# Altium integrated library IR Rectifier - Schottky.IntLib: 340 symbols (part 4 of 5)
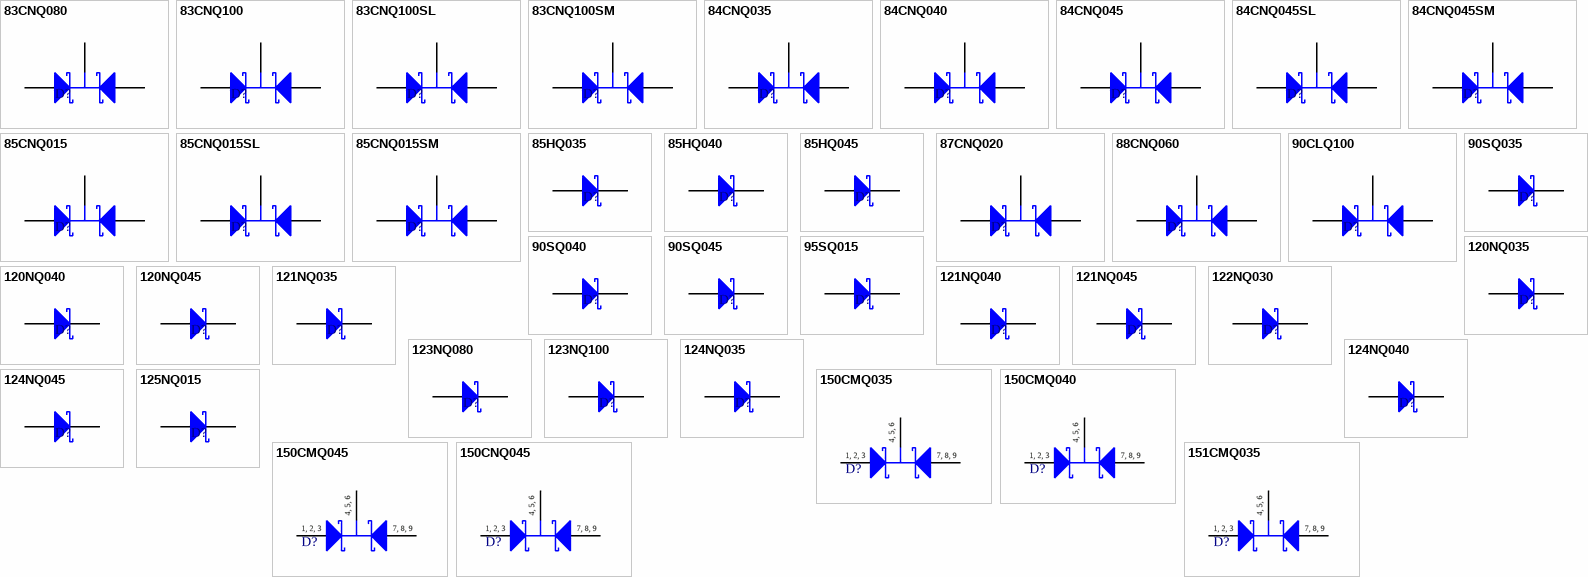
[diagram p11: symbols 83CNQ080 to 151CMQ035]

## 150CMQ035
designator D?
Schottky Rectifier; Published: 8-Jun-2000; LatestRevisionDate: 17-Jul-2002; LatestRevisionNote: Re-released for DXP Platform.; DatasheetDocument: Dec-1997; PackageDocument: Mar-1999; PackageReference: TO-249; Publisher: Altium Limited; ComponentLink1Description: Manufacturer Link; ComponentLink1URL: http://www.irf.com/; ComponentLink2Description: Datasheet; ComponentLink2URL: http://www.irf.com/product-info/datasheets/data/150cmq.pdf
footprint TO-249 (Rectangular Flange Mount, Thru-Hole; 9 Leads; Pitch 3.81 mm)
signal-integrity model 150CMQ035
pins: 1 A1, 2 A1, 3 A1, 4 K, 5 K, 6 K, 7 A2, 8 A2, 9 A2
text: 4, 5, 6; 1, 2, 3; 7, 8, 9

## 150CMQ040
designator D?
Schottky Rectifier; Published: 8-Jun-2000; LatestRevisionDate: 17-Jul-2002; LatestRevisionNote: Re-released for DXP Platform.; DatasheetDocument: Dec-1997; PackageDocument: Mar-1999; PackageReference: TO-249; Publisher: Altium Limited; ComponentLink1Description: Manufacturer Link; ComponentLink1URL: http://www.irf.com/; ComponentLink2Description: Datasheet; ComponentLink2URL: http://www.irf.com/product-info/datasheets/data/150cmq.pdf
footprint TO-249 (Rectangular Flange Mount, Thru-Hole; 9 Leads; Pitch 3.81 mm)
signal-integrity model 150CMQ040
pins: 1 A1, 2 A1, 3 A1, 4 K, 5 K, 6 K, 7 A2, 8 A2, 9 A2
text: 4, 5, 6; 1, 2, 3; 7, 8, 9

## 150CMQ045
designator D?
Schottky Rectifier; Published: 8-Jun-2000; LatestRevisionDate: 17-Jul-2002; LatestRevisionNote: Re-released for DXP Platform.; DatasheetDocument: Dec-1997; PackageDocument: Mar-1999; PackageReference: TO-249; Publisher: Altium Limited; ComponentLink1Description: Manufacturer Link; ComponentLink1URL: http://www.irf.com/; ComponentLink2Description: Datasheet; ComponentLink2URL: http://www.irf.com/product-info/datasheets/data/150cmq.pdf
footprint TO-249 (Rectangular Flange Mount, Thru-Hole; 9 Leads; Pitch 3.81 mm)
signal-integrity model 150CMQ045
pins: 1 A1, 2 A1, 3 A1, 4 K, 5 K, 6 K, 7 A2, 8 A2, 9 A2
text: 4, 5, 6; 1, 2, 3; 7, 8, 9

## 150CNQ045
designator D?
Schottky Rectifier; Published: 8-Jun-2000; LatestRevisionDate: 17-Jul-2002; LatestRevisionNote: Re-released for DXP Platform.; DatasheetDocument: Nov-1997; PackageDocument: Mar-1999; PackageReference: TO-249; Publisher: Altium Limited; ComponentLink1Description: Manufacturer Link; ComponentLink1URL: http://www.irf.com/; ComponentLink2Description: Datasheet; ComponentLink2URL: http://www.irf.com/product-info/datasheets/data/150cnq035.pdf
footprint TO-249 (Rectangular Flange Mount, Thru-Hole; 9 Leads; Pitch 3.81 mm)
signal-integrity model 150CNQ045
pins: 1 A1, 2 A1, 3 A1, 4 K, 5 K, 6 K, 7 A2, 8 A2, 9 A2
text: 4, 5, 6; 1, 2, 3; 7, 8, 9

## 151CMQ035
designator D?
Schottky Rectifier; Published: 8-Jun-2000; LatestRevisionDate: 17-Jul-2002; LatestRevisionNote: Re-released for DXP Platform.; DatasheetDocument: Dec-1997; PackageDocument: Mar-1999; PackageReference: TO-249; Publisher: Altium Limited; ComponentLink1Description: Manufacturer Link; ComponentLink1URL: http://www.irf.com/; ComponentLink2Description: Datasheet; ComponentLink2URL: http://www.irf.com/product-info/datasheets/data/151cmq.pdf
footprint TO-249 (Rectangular Flange Mount, Thru-Hole; 9 Leads; Pitch 3.81 mm)
signal-integrity model 151CMQ035
pins: 1 A1, 2 A1, 3 A1, 4 K, 5 K, 6 K, 7 A2, 8 A2, 9 A2
text: 4, 5, 6; 1, 2, 3; 7, 8, 9

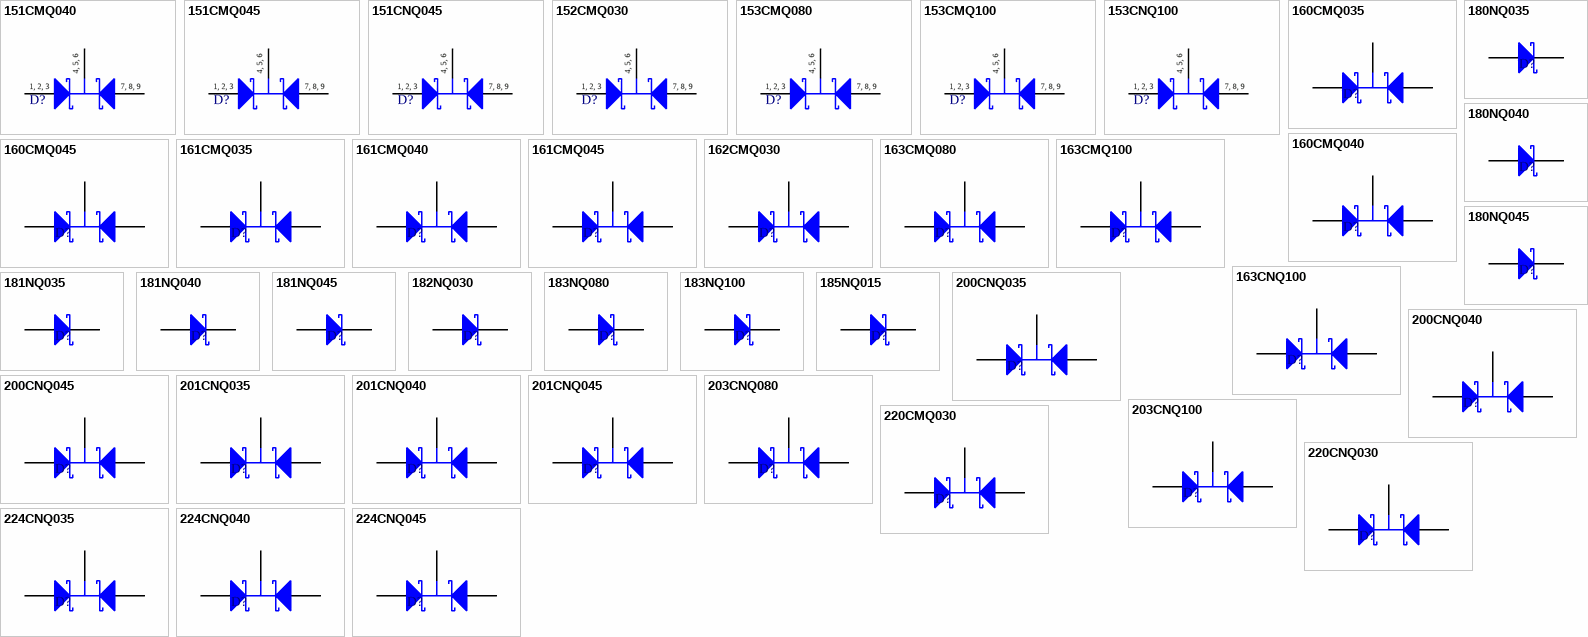
[diagram p6: symbols 151CMQ040 to 224CNQ045]

## 151CMQ040
designator D?
Schottky Rectifier; Published: 8-Jun-2000; LatestRevisionDate: 17-Jul-2002; LatestRevisionNote: Re-released for DXP Platform.; DatasheetDocument: Dec-1997; PackageDocument: Mar-1999; PackageReference: TO-249; Publisher: Altium Limited; ComponentLink1Description: Manufacturer Link; ComponentLink1URL: http://www.irf.com/; ComponentLink2Description: Datasheet; ComponentLink2URL: http://www.irf.com/product-info/datasheets/data/151cmq.pdf
footprint TO-249 (Rectangular Flange Mount, Thru-Hole; 9 Leads; Pitch 3.81 mm)
signal-integrity model 151CMQ040
pins: 1 A1, 2 A1, 3 A1, 4 K, 5 K, 6 K, 7 A2, 8 A2, 9 A2
text: 4, 5, 6; 1, 2, 3; 7, 8, 9

## 151CMQ045
designator D?
Schottky Rectifier; Published: 8-Jun-2000; LatestRevisionDate: 17-Jul-2002; LatestRevisionNote: Re-released for DXP Platform.; DatasheetDocument: Dec-1997; PackageDocument: Mar-1999; PackageReference: TO-249; Publisher: Altium Limited; ComponentLink1Description: Manufacturer Link; ComponentLink1URL: http://www.irf.com/; ComponentLink2Description: Datasheet; ComponentLink2URL: http://www.irf.com/product-info/datasheets/data/151cmq.pdf
footprint TO-249 (Rectangular Flange Mount, Thru-Hole; 9 Leads; Pitch 3.81 mm)
signal-integrity model 151CMQ045
pins: 1 A1, 2 A1, 3 A1, 4 K, 5 K, 6 K, 7 A2, 8 A2, 9 A2
text: 4, 5, 6; 1, 2, 3; 7, 8, 9

## 151CNQ045
designator D?
Schottky Rectifier; Published: 8-Jun-2000; LatestRevisionDate: 17-Jul-2002; LatestRevisionNote: Re-released for DXP Platform.; DatasheetDocument: Nov-1997; PackageDocument: Mar-1999; PackageReference: TO-249; Publisher: Altium Limited; ComponentLink1Description: Manufacturer Link; ComponentLink1URL: http://www.irf.com/; ComponentLink2Description: Datasheet; ComponentLink2URL: http://www.irf.com/product-info/datasheets/data/150cnq035.pdf
footprint TO-249 (Rectangular Flange Mount, Thru-Hole; 9 Leads; Pitch 3.81 mm)
signal-integrity model 151CNQ045
pins: 1 A1, 2 A1, 3 A1, 4 K, 5 K, 6 K, 7 A2, 8 A2, 9 A2
text: 4, 5, 6; 1, 2, 3; 7, 8, 9

## 152CMQ030
designator D?
Schottky Rectifier; Published: 8-Jun-2000; LatestRevisionDate: 17-Jul-2002; LatestRevisionNote: Re-released for DXP Platform.; DatasheetDocument: Dec-1997; PackageDocument: Mar-1999; PackageReference: TO-249; Publisher: Altium Limited; ComponentLink1Description: Manufacturer Link; ComponentLink1URL: http://www.irf.com/; ComponentLink2Description: Datasheet; ComponentLink2URL: http://www.irf.com/product-info/datasheets/data/152cmq030.pdf
footprint TO-249 (Rectangular Flange Mount, Thru-Hole; 9 Leads; Pitch 3.81 mm)
signal-integrity model 152CMQ030
pins: 1 A1, 2 A1, 3 A1, 4 K, 5 K, 6 K, 7 A2, 8 A2, 9 A2
text: 4, 5, 6; 1, 2, 3; 7, 8, 9

## 153CMQ080
designator D?
Schottky Rectifier; Published: 8-Jun-2000; LatestRevisionDate: 17-Jul-2002; LatestRevisionNote: Re-released for DXP Platform.; DatasheetDocument: Dec-1997; PackageDocument: Mar-1999; PackageReference: TO-249; Publisher: Altium Limited; ComponentLink1Description: Manufacturer Link; ComponentLink1URL: http://www.irf.com/; ComponentLink2Description: Datasheet; ComponentLink2URL: http://www.irf.com/product-info/datasheets/data/153cmq080.pdf
footprint TO-249 (Rectangular Flange Mount, Thru-Hole; 9 Leads; Pitch 3.81 mm)
signal-integrity model 153CMQ080
pins: 1 A1, 2 A1, 3 A1, 4 K, 5 K, 6 K, 7 A2, 8 A2, 9 A2
text: 4, 5, 6; 1, 2, 3; 7, 8, 9

## 153CMQ100
designator D?
Schottky Rectifier; Published: 8-Jun-2000; LatestRevisionDate: 17-Jul-2002; LatestRevisionNote: Re-released for DXP Platform.; DatasheetDocument: Dec-1997; PackageDocument: Mar-1999; PackageReference: TO-249; Publisher: Altium Limited; ComponentLink1Description: Manufacturer Link; ComponentLink1URL: http://www.irf.com/; ComponentLink2Description: Datasheet; ComponentLink2URL: http://www.irf.com/product-info/datasheets/data/153cmq080.pdf
footprint TO-249 (Rectangular Flange Mount, Thru-Hole; 9 Leads; Pitch 3.81 mm)
signal-integrity model 153CMQ100
pins: 1 A1, 2 A1, 3 A1, 4 K, 5 K, 6 K, 7 A2, 8 A2, 9 A2
text: 4, 5, 6; 1, 2, 3; 7, 8, 9

## 153CNQ100
designator D?
Schottky Rectifier; Published: 8-Jun-2000; LatestRevisionDate: 17-Jul-2002; LatestRevisionNote: Re-released for DXP Platform.; DatasheetDocument: Nov-1997; PackageDocument: Mar-1999; PackageReference: TO-249; Publisher: Altium Limited; ComponentLink1Description: Manufacturer Link; ComponentLink1URL: http://www.irf.com/; ComponentLink2Description: Datasheet; ComponentLink2URL: http://www.irf.com/product-info/datasheets/data/153cnq080.pdf
footprint TO-249 (Rectangular Flange Mount, Thru-Hole; 9 Leads; Pitch 3.81 mm)
signal-integrity model 153CNQ100
pins: 1 A1, 2 A1, 3 A1, 4 K, 5 K, 6 K, 7 A2, 8 A2, 9 A2
text: 4, 5, 6; 1, 2, 3; 7, 8, 9

## 160CMQ035
designator D?
Schottky Rectifier; PackageDocument: Rev. A,  Dec-1997; Note: Land pattern features silkscreen outline and mounting holes only.; Published: 8-Jun-2000; LatestRevisionDate: 17-Jul-2002; LatestRevisionNote: Re-released for DXP Platform.; DatasheetDocument: Dec-1997; PackageReference: TO-249AA; Publisher: Altium Limited; ComponentLink1Description: Manufacturer Link; ComponentLink1URL: http://www.irf.com/; ComponentLink2Description: Datasheet; ComponentLink2URL: http://www.irf.com/product-info/datasheets/data/160cmq.pdf
footprint TO-249AA (Rectangular Flange Mount/TO-249-AA; 3 Terminals; Body 61.21 x 25.65 x 10.16 mm  (LxWxH max))
simulation model 160CMQ035 (SUBCKT)
signal-integrity model 160CMQ035
pins: 1 A1, 2 K, 3 A2

## 160CMQ040
designator D?
Schottky Rectifier; PackageDocument: Rev. A,  Dec-1997; Note: Land pattern features silkscreen outline and mounting holes only.; Published: 8-Jun-2000; LatestRevisionDate: 17-Jul-2002; LatestRevisionNote: Re-released for DXP Platform.; DatasheetDocument: Dec-1997; PackageReference: TO-249AA; Publisher: Altium Limited; ComponentLink1Description: Manufacturer Link; ComponentLink1URL: http://www.irf.com/; ComponentLink2Description: Datasheet; ComponentLink2URL: http://www.irf.com/product-info/datasheets/data/160cmq.pdf
footprint TO-249AA (Rectangular Flange Mount/TO-249-AA; 3 Terminals; Body 61.21 x 25.65 x 10.16 mm  (LxWxH max))
simulation model 160CMQ040 (SUBCKT)
signal-integrity model 160CMQ040
pins: 1 A1, 2 K, 3 A2

## 160CMQ045
designator D?
Schottky Rectifier; PackageDocument: Rev. A,  Dec-1997; Note: Land pattern features silkscreen outline and mounting holes only.; Published: 8-Jun-2000; LatestRevisionDate: 17-Jul-2002; LatestRevisionNote: Re-released for DXP Platform.; DatasheetDocument: Dec-1997; PackageReference: TO-249AA; Publisher: Altium Limited; ComponentLink1Description: Manufacturer Link; ComponentLink1URL: http://www.irf.com/; ComponentLink2Description: Datasheet; ComponentLink2URL: http://www.irf.com/product-info/datasheets/data/160cmq.pdf
footprint TO-249AA (Rectangular Flange Mount/TO-249-AA; 3 Terminals; Body 61.21 x 25.65 x 10.16 mm  (LxWxH max))
simulation model 160CMQ045 (SUBCKT)
signal-integrity model 160CMQ045
pins: 1 A1, 2 K, 3 A2

## 161CMQ035
designator D?
Schottky Rectifier; PackageDocument: Rev. A,  Dec-1997; Note: Land pattern features silkscreen outline and mounting holes only.; Published: 8-Jun-2000; LatestRevisionDate: 17-Jul-2002; LatestRevisionNote: Re-released for DXP Platform.; DatasheetDocument: Dec-1997; PackageReference: TO-249AA; Publisher: Altium Limited; ComponentLink1Description: Manufacturer Link; ComponentLink1URL: http://www.irf.com/; ComponentLink2Description: Datasheet; ComponentLink2URL: http://www.irf.com/product-info/datasheets/data/161cmq.pdf
footprint TO-249AA (Rectangular Flange Mount/TO-249-AA; 3 Terminals; Body 61.21 x 25.65 x 10.16 mm  (LxWxH max))
simulation model 161CMQ035 (SUBCKT)
signal-integrity model 161CMQ035
pins: 1 A1, 2 K, 3 A2

## 161CMQ040
designator D?
Schottky Rectifier; PackageDocument: Rev. A,  Dec-1997; Note: Land pattern features silkscreen outline and mounting holes only.; Published: 8-Jun-2000; LatestRevisionDate: 17-Jul-2002; LatestRevisionNote: Re-released for DXP Platform.; DatasheetDocument: Dec-1997; PackageReference: TO-249AA; Publisher: Altium Limited; ComponentLink1Description: Manufacturer Link; ComponentLink1URL: http://www.irf.com/; ComponentLink2Description: Datasheet; ComponentLink2URL: http://www.irf.com/product-info/datasheets/data/161cmq.pdf
footprint TO-249AA (Rectangular Flange Mount/TO-249-AA; 3 Terminals; Body 61.21 x 25.65 x 10.16 mm  (LxWxH max))
simulation model 161CMQ040 (SUBCKT)
signal-integrity model 161CMQ040
pins: 1 A1, 2 K, 3 A2

## 161CMQ045
designator D?
Schottky Rectifier; PackageDocument: Rev. A,  Dec-1997; Note: Land pattern features silkscreen outline and mounting holes only.; Published: 8-Jun-2000; LatestRevisionDate: 17-Jul-2002; LatestRevisionNote: Re-released for DXP Platform.; DatasheetDocument: Dec-1997; PackageReference: TO-249AA; Publisher: Altium Limited; ComponentLink1Description: Manufacturer Link; ComponentLink1URL: http://www.irf.com/; ComponentLink2Description: Datasheet; ComponentLink2URL: http://www.irf.com/product-info/datasheets/data/161cmq.pdf
footprint TO-249AA (Rectangular Flange Mount/TO-249-AA; 3 Terminals; Body 61.21 x 25.65 x 10.16 mm  (LxWxH max))
simulation model 161CMQ045 (SUBCKT)
signal-integrity model 161CMQ045
pins: 1 A1, 2 K, 3 A2

## 162CMQ030
designator D?
Schottky Rectifier; PackageDocument: Rev. A,  Dec-1997; Note: Land pattern features silkscreen outline and mounting holes only.; Published: 8-Jun-2000; LatestRevisionDate: 17-Jul-2002; LatestRevisionNote: Re-released for DXP Platform.; DatasheetDocument: Dec-1997; PackageReference: TO-249AA; Publisher: Altium Limited; ComponentLink1Description: Manufacturer Link; ComponentLink1URL: http://www.irf.com/; ComponentLink2Description: Datasheet; ComponentLink2URL: http://www.irf.com/product-info/datasheets/data/162cmq030.pdf
footprint TO-249AA (Rectangular Flange Mount/TO-249-AA; 3 Terminals; Body 61.21 x 25.65 x 10.16 mm  (LxWxH max))
simulation model 162CMQ030 (SUBCKT)
signal-integrity model 162CMQ030
pins: 1 A1, 2 K, 3 A2

## 163CMQ080
designator D?
Schottky Rectifier; PackageDocument: Rev. A,  Dec-1997; Note: Land pattern features silkscreen outline and mounting holes only.; Published: 8-Jun-2000; LatestRevisionDate: 17-Jul-2002; LatestRevisionNote: Re-released for DXP Platform.; DatasheetDocument: Dec-1997; PackageReference: TO-249AA; Publisher: Altium Limited; ComponentLink1Description: Manufacturer Link; ComponentLink1URL: http://www.irf.com/; ComponentLink2Description: Datasheet; ComponentLink2URL: http://www.irf.com/product-info/datasheets/data/163cmq.pdf
footprint TO-249AA (Rectangular Flange Mount/TO-249-AA; 3 Terminals; Body 61.21 x 25.65 x 10.16 mm  (LxWxH max))
simulation model 163CMQ080 (SUBCKT)
signal-integrity model 163CMQ080
pins: 1 A1, 2 K, 3 A2

## 163CMQ100
designator D?
Schottky Rectifier; PackageDocument: Rev. A,  Dec-1997; Note: Land pattern features silkscreen outline and mounting holes only.; Published: 8-Jun-2000; LatestRevisionDate: 17-Jul-2002; LatestRevisionNote: Re-released for DXP Platform.; DatasheetDocument: Dec-1997; PackageReference: TO-249AA; Publisher: Altium Limited; ComponentLink1Description: Manufacturer Link; ComponentLink1URL: http://www.irf.com/; ComponentLink2Description: Datasheet; ComponentLink2URL: http://www.irf.com/product-info/datasheets/data/163cmq.pdf
footprint TO-249AA (Rectangular Flange Mount/TO-249-AA; 3 Terminals; Body 61.21 x 25.65 x 10.16 mm  (LxWxH max))
simulation model 163CMQ100 (SUBCKT)
signal-integrity model 163CMQ100
pins: 1 A1, 2 K, 3 A2

## 163CNQ100
designator D?
Schottky Rectifier; PackageDocument: Rev. A,  Dec-1997; Note: Land pattern features silkscreen outline and mounting holes only.; Published: 8-Jun-2000; LatestRevisionDate: 17-Jul-2002; LatestRevisionNote: Re-released for DXP Platform.; DatasheetDocument: Dec-1997; PackageReference: TO-249AA; Publisher: Altium Limited; ComponentLink1Description: Manufacturer Link; ComponentLink1URL: http://www.irf.com/; ComponentLink2Description: Datasheet; ComponentLink2URL: http://www.irf.com/product-info/datasheets/data/163cmq.pdf
footprint TO-249AA (Rectangular Flange Mount/TO-249-AA; 3 Terminals; Body 61.21 x 25.65 x 10.16 mm  (LxWxH max))
simulation model 163CNQ100 (SUBCKT)
signal-integrity model 163CNQ100
pins: 1 A1, 2 K, 3 A2

## 180NQ035
designator D?
Schottky Rectifier; PackageDocument: Rev. B,  Feb-2001; Note: Land pattern features silkscreen outline and mounting holes.; Published: 8-Jun-2000; LatestRevisionDate: 17-Jul-2002; LatestRevisionNote: Re-released for DXP Platform.; DatasheetDocument: Dec-1997; PackageReference: HALF-PAK; Publisher: Altium Limited; ComponentLink1Description: Manufacturer Link; ComponentLink1URL: http://www.irf.com/; ComponentLink2Description: Datasheet; ComponentLink2URL: http://www.irf.com/product-info/datasheets/data/180nq.pdf
footprint HALF-PAK (Half-Pak Module; 1 Lug Terminal, 1 Base Terminal; Body 39.62 x 19.69 x 15.11 mm (LxWxH max))
simulation model 180NQ035 (DIODE)
signal-integrity model 180NQ035
pins: 1 A, 2 K

## 180NQ040
designator D?
Schottky Rectifier; PackageDocument: Rev. B,  Feb-2001; Note: Land pattern features silkscreen outline and mounting holes.; Published: 8-Jun-2000; LatestRevisionDate: 17-Jul-2002; LatestRevisionNote: Re-released for DXP Platform.; DatasheetDocument: Dec-1997; PackageReference: HALF-PAK; Publisher: Altium Limited; ComponentLink1Description: Manufacturer Link; ComponentLink1URL: http://www.irf.com/; ComponentLink2Description: Datasheet; ComponentLink2URL: http://www.irf.com/product-info/datasheets/data/180nq.pdf
footprint HALF-PAK (Half-Pak Module; 1 Lug Terminal, 1 Base Terminal; Body 39.62 x 19.69 x 15.11 mm (LxWxH max))
simulation model 180NQ040 (DIODE)
signal-integrity model 180NQ040
pins: 1 A, 2 K

## 180NQ045
designator D?
Schottky Rectifier; PackageDocument: Rev. B,  Feb-2001; Note: Land pattern features silkscreen outline and mounting holes.; Published: 8-Jun-2000; LatestRevisionDate: 17-Jul-2002; LatestRevisionNote: Re-released for DXP Platform.; DatasheetDocument: Dec-1997; PackageReference: HALF-PAK; Publisher: Altium Limited; ComponentLink1Description: Manufacturer Link; ComponentLink1URL: http://www.irf.com/; ComponentLink2Description: Datasheet; ComponentLink2URL: http://www.irf.com/product-info/datasheets/data/180nq.pdf
footprint HALF-PAK (Half-Pak Module; 1 Lug Terminal, 1 Base Terminal; Body 39.62 x 19.69 x 15.11 mm (LxWxH max))
simulation model 180NQ045 (DIODE)
signal-integrity model 180NQ045
pins: 1 A, 2 K

## 181NQ035
designator D?
Schottky Rectifier; PackageDocument: Rev. B,  Feb-2001; Note: Land pattern features silkscreen outline and mounting holes.; Published: 8-Jun-2000; LatestRevisionDate: 17-Jul-2002; LatestRevisionNote: Re-released for DXP Platform.; DatasheetDocument: Dec-1997; PackageReference: HALF-PAK; Publisher: Altium Limited; ComponentLink1Description: Manufacturer Link; ComponentLink1URL: http://www.irf.com/; ComponentLink2Description: Datasheet; ComponentLink2URL: http://www.irf.com/product-info/datasheets/data/181nq.pdf
footprint HALF-PAK (Half-Pak Module; 1 Lug Terminal, 1 Base Terminal; Body 39.62 x 19.69 x 15.11 mm (LxWxH max))
simulation model 181NQ035 (DIODE)
signal-integrity model 181NQ035
pins: 1 A, 2 K

## 181NQ040
designator D?
Schottky Rectifier; PackageDocument: Rev. B,  Feb-2001; Note: Land pattern features silkscreen outline and mounting holes.; Published: 8-Jun-2000; LatestRevisionDate: 17-Jul-2002; LatestRevisionNote: Re-released for DXP Platform.; DatasheetDocument: Dec-1997; PackageReference: HALF-PAK; Publisher: Altium Limited; ComponentLink1Description: Manufacturer Link; ComponentLink1URL: http://www.irf.com/; ComponentLink2Description: Datasheet; ComponentLink2URL: http://www.irf.com/product-info/datasheets/data/181nq.pdf
footprint HALF-PAK (Half-Pak Module; 1 Lug Terminal, 1 Base Terminal; Body 39.62 x 19.69 x 15.11 mm (LxWxH max))
simulation model 181NQ040 (DIODE)
signal-integrity model 181NQ040
pins: 1 A, 2 K

## 181NQ045
designator D?
Schottky Rectifier; PackageDocument: Rev. B,  Feb-2001; Note: Land pattern features silkscreen outline and mounting holes.; Published: 8-Jun-2000; LatestRevisionDate: 17-Jul-2002; LatestRevisionNote: Re-released for DXP Platform.; DatasheetDocument: Dec-1997; PackageReference: HALF-PAK; Publisher: Altium Limited; ComponentLink1Description: Manufacturer Link; ComponentLink1URL: http://www.irf.com/; ComponentLink2Description: Datasheet; ComponentLink2URL: http://www.irf.com/product-info/datasheets/data/181nq.pdf
footprint HALF-PAK (Half-Pak Module; 1 Lug Terminal, 1 Base Terminal; Body 39.62 x 19.69 x 15.11 mm (LxWxH max))
simulation model 181NQ045 (DIODE)
signal-integrity model 181NQ045
pins: 1 A, 2 K

## 182NQ030
designator D?
Schottky Rectifier; PackageDocument: Rev. B,  Feb-2001; Note: Land pattern features silkscreen outline and mounting holes.; Published: 8-Jun-2000; LatestRevisionDate: 17-Jul-2002; LatestRevisionNote: Re-released for DXP Platform.; DatasheetDocument: Dec-1997; PackageReference: HALF-PAK; Publisher: Altium Limited; ComponentLink1Description: Manufacturer Link; ComponentLink1URL: http://www.irf.com/; ComponentLink2Description: Datasheet; ComponentLink2URL: http://www.irf.com/product-info/datasheets/data/182nq030.pdf
footprint HALF-PAK (Half-Pak Module; 1 Lug Terminal, 1 Base Terminal; Body 39.62 x 19.69 x 15.11 mm (LxWxH max))
simulation model 182NQ030 (DIODE)
signal-integrity model 182NQ030
pins: 1 A, 2 K

## 183NQ080
designator D?
Schottky Rectifier; PackageDocument: Rev. B,  Feb-2001; Note: Land pattern features silkscreen outline and mounting holes.; Published: 8-Jun-2000; LatestRevisionDate: 17-Jul-2002; LatestRevisionNote: Re-released for DXP Platform.; DatasheetDocument: Dec-1997; PackageReference: HALF-PAK; Publisher: Altium Limited; ComponentLink1Description: Manufacturer Link; ComponentLink1URL: http://www.irf.com/; ComponentLink2Description: Datasheet; ComponentLink2URL: http://www.irf.com/product-info/datasheets/data/183nq.pdf
footprint HALF-PAK (Half-Pak Module; 1 Lug Terminal, 1 Base Terminal; Body 39.62 x 19.69 x 15.11 mm (LxWxH max))
simulation model 183NQ080 (DIODE)
signal-integrity model 183NQ080
pins: 1 A, 2 K

## 183NQ100
designator D?
Schottky Rectifier; PackageDocument: Rev. B,  Feb-2001; Note: Land pattern features silkscreen outline and mounting holes.; Published: 8-Jun-2000; LatestRevisionDate: 17-Jul-2002; LatestRevisionNote: Re-released for DXP Platform.; DatasheetDocument: Dec-1997; PackageReference: HALF-PAK; Publisher: Altium Limited; ComponentLink1Description: Manufacturer Link; ComponentLink1URL: http://www.irf.com/; ComponentLink2Description: Datasheet; ComponentLink2URL: http://www.irf.com/product-info/datasheets/data/183nq.pdf
footprint HALF-PAK (Half-Pak Module; 1 Lug Terminal, 1 Base Terminal; Body 39.62 x 19.69 x 15.11 mm (LxWxH max))
simulation model 183NQ100 (DIODE)
signal-integrity model 183NQ100
pins: 1 A, 2 K

## 185NQ015
designator D?
Schottky Rectifier; PackageDocument: Rev. B,  Feb-2001; Note: Land pattern features silkscreen outline and mounting holes.; Published: 8-Jun-2000; LatestRevisionDate: 17-Jul-2002; LatestRevisionNote: Re-released for DXP Platform.; DatasheetDocument: Dec-1997; PackageReference: HALF-PAK; Publisher: Altium Limited; ComponentLink1Description: Manufacturer Link; ComponentLink1URL: http://www.irf.com/; ComponentLink2Description: Datasheet; ComponentLink2URL: http://www.irf.com/product-info/datasheets/data/185nq015.pdf
footprint HALF-PAK (Half-Pak Module; 1 Lug Terminal, 1 Base Terminal; Body 39.62 x 19.69 x 15.11 mm (LxWxH max))
simulation model 185NQ015 (DIODE)
signal-integrity model 185NQ015
pins: 1 A, 2 K

## 200CNQ035
designator D?
Schottky Rectifier; PackageDocument: Rev. A,  Dec-1997; Note: Land pattern features silkscreen outline and mounting holes only.; Published: 8-Jun-2000; LatestRevisionDate: 17-Jul-2002; LatestRevisionNote: Re-released for DXP Platform.; DatasheetDocument: Dec-1997; PackageReference: TO-244AB; Publisher: Altium Limited; ComponentLink1Description: Manufacturer Link; ComponentLink1URL: http://www.irf.com/; ComponentLink2Description: Datasheet; ComponentLink2URL: http://www.irf.com/product-info/datasheets/data/200cnq.pdf
footprint TO-244AB (Rectangular Flange Mount/TO-244-AB; 2 Screw Terminals; Body 92.71 x 20.32 x 23.55 mm (LxWxH max))
simulation model 200CNQ035 (SUBCKT)
signal-integrity model 200CNQ035
pins: 1 A1, 2 A2, 3 K

## 200CNQ040
designator D?
Schottky Rectifier; PackageDocument: Rev. A,  Dec-1997; Note: Land pattern features silkscreen outline and mounting holes only.; Published: 8-Jun-2000; LatestRevisionDate: 17-Jul-2002; LatestRevisionNote: Re-released for DXP Platform.; DatasheetDocument: Dec-1997; PackageReference: TO-244AB; Publisher: Altium Limited; ComponentLink1Description: Manufacturer Link; ComponentLink1URL: http://www.irf.com/; ComponentLink2Description: Datasheet; ComponentLink2URL: http://www.irf.com/product-info/datasheets/data/200cnq.pdf
footprint TO-244AB (Rectangular Flange Mount/TO-244-AB; 2 Screw Terminals; Body 92.71 x 20.32 x 23.55 mm (LxWxH max))
simulation model 200CNQ040 (SUBCKT)
signal-integrity model 200CNQ040
pins: 1 A1, 2 A2, 3 K

## 200CNQ045
designator D?
Schottky Rectifier; PackageDocument: Rev. A,  Dec-1997; Note: Land pattern features silkscreen outline and mounting holes only.; Published: 8-Jun-2000; LatestRevisionDate: 17-Jul-2002; LatestRevisionNote: Re-released for DXP Platform.; DatasheetDocument: Dec-1997; PackageReference: TO-244AB; Publisher: Altium Limited; ComponentLink1Description: Manufacturer Link; ComponentLink1URL: http://www.irf.com/; ComponentLink2Description: Datasheet; ComponentLink2URL: http://www.irf.com/product-info/datasheets/data/200cnq.pdf
footprint TO-244AB (Rectangular Flange Mount/TO-244-AB; 2 Screw Terminals; Body 92.71 x 20.32 x 23.55 mm (LxWxH max))
simulation model 200CNQ045 (SUBCKT)
signal-integrity model 200CNQ045
pins: 1 A1, 2 A2, 3 K

## 201CNQ035
designator D?
Schottky Rectifier; PackageDocument: Rev. A,  Dec-1997; Note: Land pattern features silkscreen outline and mounting holes only.; Published: 8-Jun-2000; LatestRevisionDate: 17-Jul-2002; LatestRevisionNote: Re-released for DXP Platform.; DatasheetDocument: Feb-1992; PackageReference: TO-244AB; Publisher: Altium Limited; ComponentLink1Description: Manufacturer Link; ComponentLink1URL: http://www.irf.com/; ComponentLink2Description: Datasheet; ComponentLink2URL: http://www.irf.com/product-info/datasheets/data/201cnq.pdf
footprint TO-244AB (Rectangular Flange Mount/TO-244-AB; 2 Screw Terminals; Body 92.71 x 20.32 x 23.55 mm (LxWxH max))
simulation model 201CNQ035 (SUBCKT)
signal-integrity model 201CNQ035
pins: 1 A1, 2 A2, 3 K

## 201CNQ040
designator D?
Schottky Rectifier; PackageDocument: Rev. A,  Dec-1997; Note: Land pattern features silkscreen outline and mounting holes only.; Published: 8-Jun-2000; LatestRevisionDate: 17-Jul-2002; LatestRevisionNote: Re-released for DXP Platform.; DatasheetDocument: Feb-1992; PackageReference: TO-244AB; Publisher: Altium Limited; ComponentLink1Description: Manufacturer Link; ComponentLink1URL: http://www.irf.com/; ComponentLink2Description: Datasheet; ComponentLink2URL: http://www.irf.com/product-info/datasheets/data/201cnq.pdf
footprint TO-244AB (Rectangular Flange Mount/TO-244-AB; 2 Screw Terminals; Body 92.71 x 20.32 x 23.55 mm (LxWxH max))
simulation model 201CNQ040 (SUBCKT)
signal-integrity model 201CNQ040
pins: 1 A1, 2 A2, 3 K

## 201CNQ045
designator D?
Schottky Rectifier; PackageDocument: Rev. A,  Dec-1997; Note: Land pattern features silkscreen outline and mounting holes only.; Published: 8-Jun-2000; LatestRevisionDate: 17-Jul-2002; LatestRevisionNote: Re-released for DXP Platform.; DatasheetDocument: Feb-1992; PackageReference: TO-244AB; Publisher: Altium Limited; ComponentLink1Description: Manufacturer Link; ComponentLink1URL: http://www.irf.com/; ComponentLink2Description: Datasheet; ComponentLink2URL: http://www.irf.com/product-info/datasheets/data/201cnq.pdf
footprint TO-244AB (Rectangular Flange Mount/TO-244-AB; 2 Screw Terminals; Body 92.71 x 20.32 x 23.55 mm (LxWxH max))
simulation model 201CNQ045 (SUBCKT)
signal-integrity model 201CNQ045
pins: 1 A1, 2 A2, 3 K

## 203CNQ080
designator D?
Schottky Rectifier; PackageDocument: Rev. A,  Dec-1997; Note: Land pattern features silkscreen outline and mounting holes only.; Published: 8-Jun-2000; LatestRevisionDate: 17-Jul-2002; LatestRevisionNote: Re-released for DXP Platform.; DatasheetDocument: Feb-1992; PackageReference: TO-244AB; Publisher: Altium Limited; ComponentLink1Description: Manufacturer Link; ComponentLink1URL: http://www.irf.com/; ComponentLink2Description: Datasheet; ComponentLink2URL: http://www.irf.com/product-info/datasheets/data/203CNQ.pdf
footprint TO-244AB (Rectangular Flange Mount/TO-244-AB; 2 Screw Terminals; Body 92.71 x 20.32 x 23.55 mm (LxWxH max))
simulation model 203CNQ080 (SUBCKT)
signal-integrity model 203CNQ080
pins: 1 A1, 2 A2, 3 K

## 203CNQ100
designator D?
Schottky Rectifier; PackageDocument: Rev. A,  Dec-1997; Note: Land pattern features silkscreen outline and mounting holes only.; Published: 8-Jun-2000; LatestRevisionDate: 17-Jul-2002; LatestRevisionNote: Re-released for DXP Platform.; DatasheetDocument: Feb-1992; PackageReference: TO-244AB; Publisher: Altium Limited; ComponentLink1Description: Manufacturer Link; ComponentLink1URL: http://www.irf.com/; ComponentLink2Description: Datasheet; ComponentLink2URL: http://www.irf.com/product-info/datasheets/data/203CNQ.pdf
footprint TO-244AB (Rectangular Flange Mount/TO-244-AB; 2 Screw Terminals; Body 92.71 x 20.32 x 23.55 mm (LxWxH max))
simulation model 203CNQ100 (SUBCKT)
signal-integrity model 203CNQ100
pins: 1 A1, 2 A2, 3 K

## 220CMQ030
designator D?
Schottky Rectifier; PackageDocument: Rev. A,  Dec-1997; Note: Land pattern features silkscreen outline and mounting holes only.; Published: 8-Jun-2000; LatestRevisionDate: 17-Jul-2002; LatestRevisionNote: Re-released for DXP Platform.; DatasheetDocument: Mar-1998; PackageReference: TO-244AB; Publisher: Altium Limited; ComponentLink1Description: Manufacturer Link; ComponentLink1URL: http://www.irf.com/; ComponentLink2Description: Datasheet; ComponentLink2URL: http://www.irf.com/product-info/datasheets/data/220cmq030.pdf
footprint TO-244AB (Rectangular Flange Mount/TO-244-AB; 2 Screw Terminals; Body 92.71 x 20.32 x 23.55 mm (LxWxH max))
simulation model 220CMQ030 (SUBCKT)
signal-integrity model 220CMQ030
pins: 1 A1, 2 A2, 3 K

## 220CNQ030
designator D?
Schottky Rectifier; PackageDocument: Rev. A,  Dec-1997; Note: Land pattern features silkscreen outline and mounting holes only.; Published: 8-Jun-2000; LatestRevisionDate: 17-Jul-2002; LatestRevisionNote: Re-released for DXP Platform.; DatasheetDocument: Feb-1992; PackageReference: TO-244AB; Publisher: Altium Limited; ComponentLink1Description: Manufacturer Link; ComponentLink1URL: http://www.irf.com/; ComponentLink2Description: Datasheet; ComponentLink2URL: http://www.irf.com/product-info/datasheets/data/220CNQ030.pdf
footprint TO-244AB (Rectangular Flange Mount/TO-244-AB; 2 Screw Terminals; Body 92.71 x 20.32 x 23.55 mm (LxWxH max))
simulation model 220CNQ030 (SUBCKT)
signal-integrity model 220CNQ030
pins: 1 A1, 2 A2, 3 K

## 224CNQ035
designator D?
Schottky Rectifier; PackageDocument: Rev. A,  Dec-1997; Note: Land pattern features silkscreen outline and mounting holes only.; Published: 8-Jun-2000; LatestRevisionDate: 17-Jul-2002; LatestRevisionNote: Re-released for DXP Platform.; DatasheetDocument: Dec-1997; PackageReference: TO-244AB; Publisher: Altium Limited; ComponentLink1Description: Manufacturer Link; ComponentLink1URL: http://www.irf.com/; ComponentLink2Description: Datasheet; ComponentLink2URL: http://www.irf.com/product-info/datasheets/data/224cnq035.pdf
footprint TO-244AB (Rectangular Flange Mount/TO-244-AB; 2 Screw Terminals; Body 92.71 x 20.32 x 23.55 mm (LxWxH max))
simulation model 224CNQ035 (SUBCKT)
signal-integrity model 224CNQ035
pins: 1 A1, 2 A2, 3 K

## 224CNQ040
designator D?
Schottky Rectifier; PackageDocument: Rev. A,  Dec-1997; Note: Land pattern features silkscreen outline and mounting holes only.; Published: 8-Jun-2000; LatestRevisionDate: 17-Jul-2002; LatestRevisionNote: Re-released for DXP Platform.; DatasheetDocument: Dec-1997; PackageReference: TO-244AB; Publisher: Altium Limited; ComponentLink1Description: Manufacturer Link; ComponentLink1URL: http://www.irf.com/; ComponentLink2Description: Datasheet; ComponentLink2URL: http://www.irf.com/product-info/datasheets/data/224cnq035.pdf
footprint TO-244AB (Rectangular Flange Mount/TO-244-AB; 2 Screw Terminals; Body 92.71 x 20.32 x 23.55 mm (LxWxH max))
simulation model 224CNQ040 (SUBCKT)
signal-integrity model 224CNQ040
pins: 1 A1, 2 A2, 3 K

## 224CNQ045
designator D?
Schottky Rectifier; PackageDocument: Rev. A,  Dec-1997; Note: Land pattern features silkscreen outline and mounting holes only.; Published: 8-Jun-2000; LatestRevisionDate: 17-Jul-2002; LatestRevisionNote: Re-released for DXP Platform.; DatasheetDocument: Dec-1997; PackageReference: TO-244AB; Publisher: Altium Limited; ComponentLink1Description: Manufacturer Link; ComponentLink1URL: http://www.irf.com/; ComponentLink2Description: Datasheet; ComponentLink2URL: http://www.irf.com/product-info/datasheets/data/224cnq035.pdf
footprint TO-244AB (Rectangular Flange Mount/TO-244-AB; 2 Screw Terminals; Body 92.71 x 20.32 x 23.55 mm (LxWxH max))
simulation model 224CNQ045 (SUBCKT)
signal-integrity model 224CNQ045
pins: 1 A1, 2 A2, 3 K

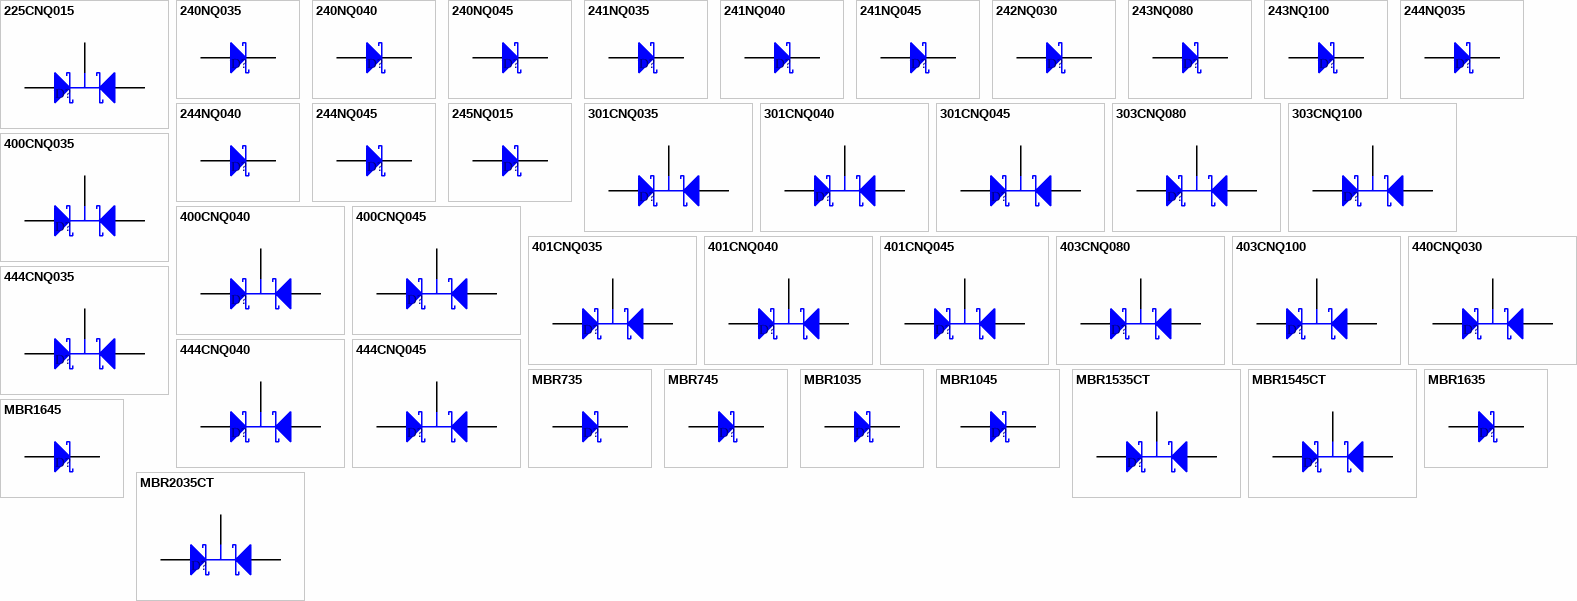
[diagram p7: symbols 225CNQ015 to MBR2035CT]

## 225CNQ015
designator D?
Schottky Rectifier; PackageDocument: Rev. A,  Dec-1997; Note: Land pattern features silkscreen outline and mounting holes only.; Published: 8-Jun-2000; LatestRevisionDate: 17-Jul-2002; LatestRevisionNote: Re-released for DXP Platform.; DatasheetDocument: Dec-1997; PackageReference: TO-244AB; Publisher: Altium Limited; ComponentLink1Description: Manufacturer Link; ComponentLink1URL: http://www.irf.com/; ComponentLink2Description: Datasheet; ComponentLink2URL: http://www.irf.com/product-info/datasheets/data/225cnq.pdf
footprint TO-244AB (Rectangular Flange Mount/TO-244-AB; 2 Screw Terminals; Body 92.71 x 20.32 x 23.55 mm (LxWxH max))
simulation model 225CNQ015 (SUBCKT)
signal-integrity model 225CNQ015
pins: 1 A1, 2 A2, 3 K

## 240NQ035
designator D?
Schottky Rectifier; PackageDocument: Rev. B,  Feb-2001; Note: Land pattern features silkscreen outline and mounting holes.; Published: 8-Jun-2000; LatestRevisionDate: 17-Jul-2002; LatestRevisionNote: Re-released for DXP Platform.; DatasheetDocument: Dec-1997; PackageReference: HALF-PAK; Publisher: Altium Limited; ComponentLink1Description: Manufacturer Link; ComponentLink1URL: http://www.irf.com/; ComponentLink2Description: Datasheet; ComponentLink2URL: http://www.irf.com/product-info/datasheets/data/240nq.pdf
footprint HALF-PAK (Half-Pak Module; 1 Lug Terminal, 1 Base Terminal; Body 39.62 x 19.69 x 15.11 mm (LxWxH max))
simulation model 240NQ035 (DIODE)
signal-integrity model 240NQ035
pins: 1 A, 2 K

## 240NQ040
designator D?
Schottky Rectifier; PackageDocument: Rev. B,  Feb-2001; Note: Land pattern features silkscreen outline and mounting holes.; Published: 8-Jun-2000; LatestRevisionDate: 17-Jul-2002; LatestRevisionNote: Re-released for DXP Platform.; DatasheetDocument: Dec-1997; PackageReference: HALF-PAK; Publisher: Altium Limited; ComponentLink1Description: Manufacturer Link; ComponentLink1URL: http://www.irf.com/; ComponentLink2Description: Datasheet; ComponentLink2URL: http://www.irf.com/product-info/datasheets/data/240nq.pdf
footprint HALF-PAK (Half-Pak Module; 1 Lug Terminal, 1 Base Terminal; Body 39.62 x 19.69 x 15.11 mm (LxWxH max))
simulation model 240NQ040 (DIODE)
signal-integrity model 240NQ040
pins: 1 A, 2 K

## 240NQ045
designator D?
Schottky Rectifier; PackageDocument: Rev. B,  Feb-2001; Note: Land pattern features silkscreen outline and mounting holes.; Published: 8-Jun-2000; LatestRevisionDate: 17-Jul-2002; LatestRevisionNote: Re-released for DXP Platform.; DatasheetDocument: Dec-1997; PackageReference: HALF-PAK; Publisher: Altium Limited; ComponentLink1Description: Manufacturer Link; ComponentLink1URL: http://www.irf.com/; ComponentLink2Description: Datasheet; ComponentLink2URL: http://www.irf.com/product-info/datasheets/data/240nq.pdf
footprint HALF-PAK (Half-Pak Module; 1 Lug Terminal, 1 Base Terminal; Body 39.62 x 19.69 x 15.11 mm (LxWxH max))
simulation model 240NQ045 (DIODE)
signal-integrity model 240NQ045
pins: 1 A, 2 K

## 241NQ035
designator D?
Schottky Rectifier; PackageDocument: Rev. B,  Feb-2001; Note: Land pattern features silkscreen outline and mounting holes.; Published: 8-Jun-2000; LatestRevisionDate: 17-Jul-2002; LatestRevisionNote: Re-released for DXP Platform.; DatasheetDocument: Dec-1997; PackageReference: HALF-PAK; Publisher: Altium Limited; ComponentLink1Description: Manufacturer Link; ComponentLink1URL: http://www.irf.com/; ComponentLink2Description: Datasheet; ComponentLink2URL: http://www.irf.com/product-info/datasheets/data/241nq.pdf
footprint HALF-PAK (Half-Pak Module; 1 Lug Terminal, 1 Base Terminal; Body 39.62 x 19.69 x 15.11 mm (LxWxH max))
simulation model 241NQ035 (DIODE)
signal-integrity model 241NQ035
pins: 1 A, 2 K

## 241NQ040
designator D?
Schottky Rectifier; PackageDocument: Rev. B,  Feb-2001; Note: Land pattern features silkscreen outline and mounting holes.; Published: 8-Jun-2000; LatestRevisionDate: 17-Jul-2002; LatestRevisionNote: Re-released for DXP Platform.; DatasheetDocument: Dec-1997; PackageReference: HALF-PAK; Publisher: Altium Limited; ComponentLink1Description: Manufacturer Link; ComponentLink1URL: http://www.irf.com/; ComponentLink2Description: Datasheet; ComponentLink2URL: http://www.irf.com/product-info/datasheets/data/241nq.pdf
footprint HALF-PAK (Half-Pak Module; 1 Lug Terminal, 1 Base Terminal; Body 39.62 x 19.69 x 15.11 mm (LxWxH max))
simulation model 241NQ040 (DIODE)
signal-integrity model 241NQ040
pins: 1 A, 2 K

## 241NQ045
designator D?
Schottky Rectifier; PackageDocument: Rev. B,  Feb-2001; Note: Land pattern features silkscreen outline and mounting holes.; Published: 8-Jun-2000; LatestRevisionDate: 17-Jul-2002; LatestRevisionNote: Re-released for DXP Platform.; DatasheetDocument: Dec-1997; PackageReference: HALF-PAK; Publisher: Altium Limited; ComponentLink1Description: Manufacturer Link; ComponentLink1URL: http://www.irf.com/; ComponentLink2Description: Datasheet; ComponentLink2URL: http://www.irf.com/product-info/datasheets/data/241nq.pdf
footprint HALF-PAK (Half-Pak Module; 1 Lug Terminal, 1 Base Terminal; Body 39.62 x 19.69 x 15.11 mm (LxWxH max))
simulation model 241NQ045 (DIODE)
signal-integrity model 241NQ045
pins: 1 A, 2 K

## 242NQ030
designator D?
Schottky Rectifier; PackageDocument: Rev. B,  Feb-2001; Note: Land pattern features silkscreen outline and mounting holes.; Published: 8-Jun-2000; LatestRevisionDate: 17-Jul-2002; LatestRevisionNote: Re-released for DXP Platform.; DatasheetDocument: Dec-1997; PackageReference: HALF-PAK; Publisher: Altium Limited; ComponentLink1Description: Manufacturer Link; ComponentLink1URL: http://www.irf.com/; ComponentLink2Description: Datasheet; ComponentLink2URL: http://www.irf.com/product-info/datasheets/data/242nq030.pdf
footprint HALF-PAK (Half-Pak Module; 1 Lug Terminal, 1 Base Terminal; Body 39.62 x 19.69 x 15.11 mm (LxWxH max))
simulation model 242NQ030 (DIODE)
signal-integrity model 242NQ030
pins: 1 A, 2 K

## 243NQ080
designator D?
Schottky Rectifier; PackageDocument: Rev. B,  Feb-2001; Note: Land pattern features silkscreen outline and mounting holes.; Published: 8-Jun-2000; LatestRevisionDate: 17-Jul-2002; LatestRevisionNote: Re-released for DXP Platform.; DatasheetDocument: Dec-1997; PackageReference: HALF-PAK; Publisher: Altium Limited; ComponentLink1Description: Manufacturer Link; ComponentLink1URL: http://www.irf.com/; ComponentLink2Description: Datasheet; ComponentLink2URL: http://www.irf.com/product-info/datasheets/data/243nq.pdf
footprint HALF-PAK (Half-Pak Module; 1 Lug Terminal, 1 Base Terminal; Body 39.62 x 19.69 x 15.11 mm (LxWxH max))
simulation model 243NQ080 (DIODE)
signal-integrity model 243NQ080
pins: 1 A, 2 K

## 243NQ100
designator D?
Schottky Rectifier; PackageDocument: Rev. B,  Feb-2001; Note: Land pattern features silkscreen outline and mounting holes.; Published: 8-Jun-2000; LatestRevisionDate: 17-Jul-2002; LatestRevisionNote: Re-released for DXP Platform.; DatasheetDocument: Dec-1997; PackageReference: HALF-PAK; Publisher: Altium Limited; ComponentLink1Description: Manufacturer Link; ComponentLink1URL: http://www.irf.com/; ComponentLink2Description: Datasheet; ComponentLink2URL: http://www.irf.com/product-info/datasheets/data/243nq.pdf
footprint HALF-PAK (Half-Pak Module; 1 Lug Terminal, 1 Base Terminal; Body 39.62 x 19.69 x 15.11 mm (LxWxH max))
simulation model 243NQ100 (DIODE)
signal-integrity model 243NQ100
pins: 1 A, 2 K

## 244NQ035
designator D?
Schottky Rectifier; PackageDocument: Rev. B,  Feb-2001; Note: Land pattern features silkscreen outline and mounting holes.; Published: 8-Jun-2000; LatestRevisionDate: 17-Jul-2002; LatestRevisionNote: Re-released for DXP Platform.; DatasheetDocument: Dec-1997; PackageReference: HALF-PAK; Publisher: Altium Limited; ComponentLink1Description: Manufacturer Link; ComponentLink1URL: http://www.irf.com/
footprint HALF-PAK (Half-Pak Module; 1 Lug Terminal, 1 Base Terminal; Body 39.62 x 19.69 x 15.11 mm (LxWxH max))
simulation model 244NQ035 (DIODE)
signal-integrity model 244NQ035
pins: 1 A, 2 K

## 244NQ040
designator D?
Schottky Rectifier; PackageDocument: Rev. B,  Feb-2001; Note: Land pattern features silkscreen outline and mounting holes.; Published: 8-Jun-2000; LatestRevisionDate: 17-Jul-2002; LatestRevisionNote: Re-released for DXP Platform.; DatasheetDocument: Dec-1997; PackageReference: HALF-PAK; Publisher: Altium Limited; ComponentLink1Description: Manufacturer Link; ComponentLink1URL: http://www.irf.com/
footprint HALF-PAK (Half-Pak Module; 1 Lug Terminal, 1 Base Terminal; Body 39.62 x 19.69 x 15.11 mm (LxWxH max))
simulation model 244NQ040 (DIODE)
signal-integrity model 244NQ040
pins: 1 A, 2 K

## 244NQ045
designator D?
Schottky Rectifier; PackageDocument: Rev. B,  Feb-2001; Note: Land pattern features silkscreen outline and mounting holes.; Published: 8-Jun-2000; LatestRevisionDate: 17-Jul-2002; LatestRevisionNote: Re-released for DXP Platform.; DatasheetDocument: Dec-1997; PackageReference: HALF-PAK; Publisher: Altium Limited; ComponentLink1Description: Manufacturer Link; ComponentLink1URL: http://www.irf.com/
footprint HALF-PAK (Half-Pak Module; 1 Lug Terminal, 1 Base Terminal; Body 39.62 x 19.69 x 15.11 mm (LxWxH max))
simulation model 244NQ045 (DIODE)
signal-integrity model 244NQ045
pins: 1 A, 2 K

## 245NQ015
designator D?
Schottky Rectifier; PackageDocument: Rev. B,  Feb-2001; Note: Land pattern features silkscreen outline and mounting holes.; Published: 8-Jun-2000; LatestRevisionDate: 17-Jul-2002; LatestRevisionNote: Re-released for DXP Platform.; DatasheetDocument: Dec-1997; PackageReference: HALF-PAK; Publisher: Altium Limited; ComponentLink1Description: Manufacturer Link; ComponentLink1URL: http://www.irf.com/; ComponentLink2Description: Datasheet; ComponentLink2URL: http://www.irf.com/product-info/datasheets/data/245nq015.pdf
footprint HALF-PAK (Half-Pak Module; 1 Lug Terminal, 1 Base Terminal; Body 39.62 x 19.69 x 15.11 mm (LxWxH max))
simulation model 245NQ015 (DIODE)
signal-integrity model 245NQ015
pins: 1 A, 2 K

## 301CNQ035
designator D?
Schottky Rectifier; PackageDocument: Rev. A,  Dec-1997; Note: Land pattern features silkscreen outline and mounting holes only.; Published: 8-Jun-2000; LatestRevisionDate: 17-Jul-2002; LatestRevisionNote: Re-released for DXP Platform.; DatasheetDocument: Dec-1997; PackageReference: TO-244AB; Publisher: Altium Limited; ComponentLink1Description: Manufacturer Link; ComponentLink1URL: http://www.irf.com/; ComponentLink2Description: Datasheet; ComponentLink2URL: http://www.irf.com/product-info/datasheets/data/301cnq.pdf
footprint TO-244AB (Rectangular Flange Mount/TO-244-AB; 2 Screw Terminals; Body 92.71 x 20.32 x 23.55 mm (LxWxH max))
simulation model 301CNQ035 (SUBCKT)
signal-integrity model 301CNQ035
pins: 1 A1, 2 A2, 3 K

## 301CNQ040
designator D?
Schottky Rectifier; PackageDocument: Rev. A,  Dec-1997; Note: Land pattern features silkscreen outline and mounting holes only.; Published: 8-Jun-2000; LatestRevisionDate: 17-Jul-2002; LatestRevisionNote: Re-released for DXP Platform.; DatasheetDocument: Dec-1997; PackageReference: TO-244AB; Publisher: Altium Limited; ComponentLink1Description: Manufacturer Link; ComponentLink1URL: http://www.irf.com/; ComponentLink2Description: Datasheet; ComponentLink2URL: http://www.irf.com/product-info/datasheets/data/301cnq.pdf
footprint TO-244AB (Rectangular Flange Mount/TO-244-AB; 2 Screw Terminals; Body 92.71 x 20.32 x 23.55 mm (LxWxH max))
simulation model 301CNQ040 (SUBCKT)
signal-integrity model 301CNQ040
pins: 1 A1, 2 A2, 3 K

## 301CNQ045
designator D?
Schottky Rectifier; PackageDocument: Rev. A,  Dec-1997; Note: Land pattern features silkscreen outline and mounting holes only.; Published: 8-Jun-2000; LatestRevisionDate: 17-Jul-2002; LatestRevisionNote: Re-released for DXP Platform.; DatasheetDocument: Dec-1997; PackageReference: TO-244AB; Publisher: Altium Limited; ComponentLink1Description: Manufacturer Link; ComponentLink1URL: http://www.irf.com/; ComponentLink2Description: Datasheet; ComponentLink2URL: http://www.irf.com/product-info/datasheets/data/301cnq.pdf
footprint TO-244AB (Rectangular Flange Mount/TO-244-AB; 2 Screw Terminals; Body 92.71 x 20.32 x 23.55 mm (LxWxH max))
simulation model 301CNQ045 (SUBCKT)
signal-integrity model 301CNQ045
pins: 1 A1, 2 A2, 3 K

## 303CNQ080
designator D?
Schottky Rectifier; PackageDocument: Rev. A,  Dec-1997; Note: Land pattern features silkscreen outline and mounting holes only.; Published: 8-Jun-2000; LatestRevisionDate: 17-Jul-2002; LatestRevisionNote: Re-released for DXP Platform.; DatasheetDocument: Dec-1997; PackageReference: TO-244AB; Publisher: Altium Limited; ComponentLink1Description: Manufacturer Link; ComponentLink1URL: http://www.irf.com/; ComponentLink2Description: Datasheet; ComponentLink2URL: http://www.irf.com/product-info/datasheets/data/303cnq.pdf
footprint TO-244AB (Rectangular Flange Mount/TO-244-AB; 2 Screw Terminals; Body 92.71 x 20.32 x 23.55 mm (LxWxH max))
simulation model 303CNQ080 (SUBCKT)
signal-integrity model 303CNQ080
pins: 1 A1, 2 A2, 3 K

## 303CNQ100
designator D?
Schottky Rectifier; PackageDocument: Rev. A,  Dec-1997; Note: Land pattern features silkscreen outline and mounting holes only.; Published: 8-Jun-2000; LatestRevisionDate: 17-Jul-2002; LatestRevisionNote: Re-released for DXP Platform.; DatasheetDocument: Dec-1997; PackageReference: TO-244AB; Publisher: Altium Limited; ComponentLink1Description: Manufacturer Link; ComponentLink1URL: http://www.irf.com/; ComponentLink2Description: Datasheet; ComponentLink2URL: http://www.irf.com/product-info/datasheets/data/303cnq.pdf
footprint TO-244AB (Rectangular Flange Mount/TO-244-AB; 2 Screw Terminals; Body 92.71 x 20.32 x 23.55 mm (LxWxH max))
simulation model 303CNQ100 (SUBCKT)
signal-integrity model 303CNQ100
pins: 1 A1, 2 A2, 3 K

## 400CNQ035
designator D?
Schottky Rectifier; PackageDocument: Rev. A,  Dec-1997; Note: Land pattern features silkscreen outline and mounting holes only.; Published: 8-Jun-2000; LatestRevisionDate: 17-Jul-2002; LatestRevisionNote: Re-released for DXP Platform.; DatasheetDocument: Dec-1997; PackageReference: TO-244AB; Publisher: Altium Limited; ComponentLink1Description: Manufacturer Link; ComponentLink1URL: http://www.irf.com/; ComponentLink2Description: Datasheet; ComponentLink2URL: http://www.irf.com/product-info/datasheets/data/400cnq.pdf
footprint TO-244AB (Rectangular Flange Mount/TO-244-AB; 2 Screw Terminals; Body 92.71 x 20.32 x 23.55 mm (LxWxH max))
simulation model 400CNQ035 (SUBCKT)
signal-integrity model 400CNQ035
pins: 1 A1, 2 A2, 3 K

## 400CNQ040
designator D?
Schottky Rectifier; PackageDocument: Rev. A,  Dec-1997; Note: Land pattern features silkscreen outline and mounting holes only.; Published: 8-Jun-2000; LatestRevisionDate: 17-Jul-2002; LatestRevisionNote: Re-released for DXP Platform.; DatasheetDocument: Dec-1997; PackageReference: TO-244AB; Publisher: Altium Limited; ComponentLink1Description: Manufacturer Link; ComponentLink1URL: http://www.irf.com/; ComponentLink2Description: Datasheet; ComponentLink2URL: http://www.irf.com/product-info/datasheets/data/400cnq.pdf
footprint TO-244AB (Rectangular Flange Mount/TO-244-AB; 2 Screw Terminals; Body 92.71 x 20.32 x 23.55 mm (LxWxH max))
simulation model 400CNQ040 (SUBCKT)
signal-integrity model 400CNQ040
pins: 1 A1, 2 A2, 3 K

## 400CNQ045
designator D?
Schottky Rectifier; PackageDocument: Rev. A,  Dec-1997; Note: Land pattern features silkscreen outline and mounting holes only.; Published: 8-Jun-2000; LatestRevisionDate: 17-Jul-2002; LatestRevisionNote: Re-released for DXP Platform.; DatasheetDocument: Dec-1997; PackageReference: TO-244AB; Publisher: Altium Limited; ComponentLink1Description: Manufacturer Link; ComponentLink1URL: http://www.irf.com/; ComponentLink2Description: Datasheet; ComponentLink2URL: http://www.irf.com/product-info/datasheets/data/400cnq.pdf
footprint TO-244AB (Rectangular Flange Mount/TO-244-AB; 2 Screw Terminals; Body 92.71 x 20.32 x 23.55 mm (LxWxH max))
simulation model 400CNQ045 (SUBCKT)
signal-integrity model 400CNQ045
pins: 1 A1, 2 A2, 3 K

## 401CNQ035
designator D?
Schottky Rectifier; PackageDocument: Rev. A,  Dec-1997; Note: Land pattern features silkscreen outline and mounting holes only.; Published: 8-Jun-2000; LatestRevisionDate: 17-Jul-2002; LatestRevisionNote: Re-released for DXP Platform.; DatasheetDocument: Dec-1997; PackageReference: TO-244AB; Publisher: Altium Limited; ComponentLink1Description: Manufacturer Link; ComponentLink1URL: http://www.irf.com/; ComponentLink2Description: Datasheet; ComponentLink2URL: http://www.irf.com/product-info/datasheets/data/401cnq.pdf
footprint TO-244AB (Rectangular Flange Mount/TO-244-AB; 2 Screw Terminals; Body 92.71 x 20.32 x 23.55 mm (LxWxH max))
simulation model 401CNQ035 (SUBCKT)
signal-integrity model 401CNQ035
pins: 1 A1, 2 A2, 3 K